# Altium schematic symbol library standard_res_cap_ind.SchLib: 17 symbols
Pins are listed as number, name and electrical type; pins without a type are passive.

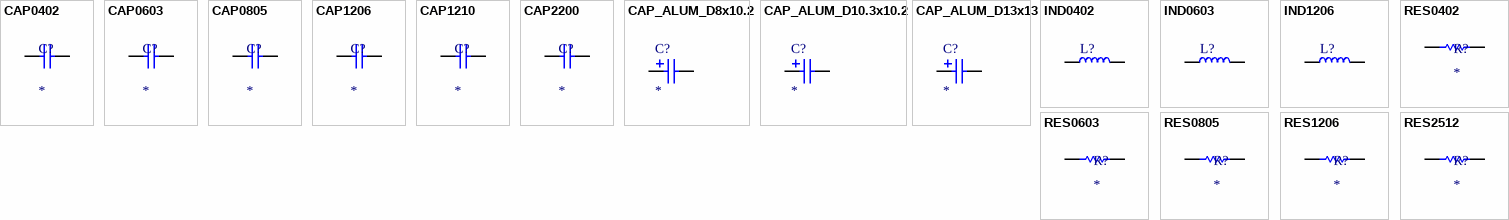
[diagram p0: symbols CAP0402 to RES2512]

## CAP0402
designator C?
Manufacturer Part Number 1: *; Supplier Part Number 1: *; Supplier 1: *; Manufacturer 1: *; Rating: *; Tolerance: *; Value: *
signal-integrity model Cap
footprint CAP0402
pins: 1, 2

## CAP0603
designator C?
Manufacturer Part Number 1: *; Supplier Part Number 1: *; Manufacturer 1: *; Rating: *; Tolerance: *; Value: *; Supplier 1: *
signal-integrity model Cap
footprint CAP0603
pins: 1, 2

## CAP0805
designator C?
Manufacturer Part Number 1: *; Supplier Part Number 1: *; Manufacturer 1: *; Rating: *; Tolerance: *; Value: *; Supplier 1: *
signal-integrity model Cap
footprint CAP0805
pins: 1, 2

## CAP1206
designator C?
Manufacturer Part Number 1: *; Supplier Part Number 1: *; Manufacturer 1: *; Rating: *; Tolerance: *; Value: *; Supplier 1: *
signal-integrity model Cap
footprint CAP1206
pins: 1, 2

## CAP1210
designator C?
Manufacturer Part Number 1: *; Supplier Part Number 1: *; Manufacturer 1: *; Rating: *; Tolerance: *; Value: *; Supplier 1: *
signal-integrity model Cap
footprint CAP1210
pins: 1, 2

## CAP2200
designator C?
Manufacturer Part Number 1: *; Supplier Part Number 1: *; Supplier 1: *; Manufacturer 1: *; Rating: *; Tolerance: *; Value: *
signal-integrity model Cap
footprint CAP2220
pins: 1, 2

## CAP_ALUM_D8x10.2
designator C?
Manufacturer 1: *; Manufacturer Part Number 1: *; Supplier 1: *; Supplier Part Number 1: *; Rating: *; Value: *; Tolerance: *
signal-integrity model Cap
footprint CAP_ALUM_D8x10.2
pins: 1, 2

## CAP_ALUM_D10.3x10.2
designator C?
Manufacturer 1: *; Manufacturer Part Number 1: *; Supplier 1: *; Supplier Part Number 1: *; Rating: *; Value: *; Tolerance: *
signal-integrity model Cap
footprint CAP_ALUM_D10.3x10.2
pins: 1, 2

## CAP_ALUM_D13x13
designator C?
Manufacturer 1: *; Manufacturer Part Number 1: *; Supplier 1: *; Supplier Part Number 1: *; Rating: *; Value: *; Tolerance: *
signal-integrity model Cap
footprint CAP_ALUM_D13x13
pins: 1, 2

## IND0402
designator L?
footprint IND0402
pins: 1, 2

## IND0603
designator L?
footprint IND0603
pins: 1, 2

## IND1206
designator L?
footprint IND1206
pins: 1, 2

## RES0402
designator R?
Manufacturer 1: *; Manufacturer Part Number 1: *; Supplier 1: *; Supplier Part Number 1: *; Value: *; Rating: *; Tolerance: *
simulation model RESISTOR (Resistor)
signal-integrity model Res
footprint RES0402
pins: 1, 2

## RES0603
designator R?
Manufacturer 1: *; Manufacturer Part Number 1: *; Supplier 1: *; Supplier Part Number 1: *; Value: *; Rating: *; Tolerance: *
simulation model RESISTOR (Resistor)
signal-integrity model Res
footprint RES0603
pins: 1, 2

## RES0805
designator R?
Manufacturer 1: *; Manufacturer Part Number 1: *; Supplier 1: *; Supplier Part Number 1: *; Value: *; Rating: *; Tolerance: *
simulation model RESISTOR (Resistor)
signal-integrity model Res
footprint RES0805
pins: 1, 2

## RES1206
designator R?
Manufacturer 1: *; Manufacturer Part Number 1: *; Supplier 1: *; Supplier Part Number 1: *; Value: *; Rating: *; Tolerance: *
simulation model RESISTOR (Resistor)
signal-integrity model Res
footprint RES1206
pins: 1, 2

## RES2512
designator R?
Manufacturer 1: *; Manufacturer Part Number 1: *; Supplier 1: *; Supplier Part Number 1: *; Value: *; Rating: *; Tolerance: *
simulation model RESISTOR (Resistor)
signal-integrity model Res
footprint RES2512
pins: 1, 2